# EAGLE library part INFINEON_BTS5008-1EKB (library PROFET+_EAGLE_Library)
PROFET+ 12V BTS5008-1EKB Smart High-Side Power Switch Single Channel, 8mOhm
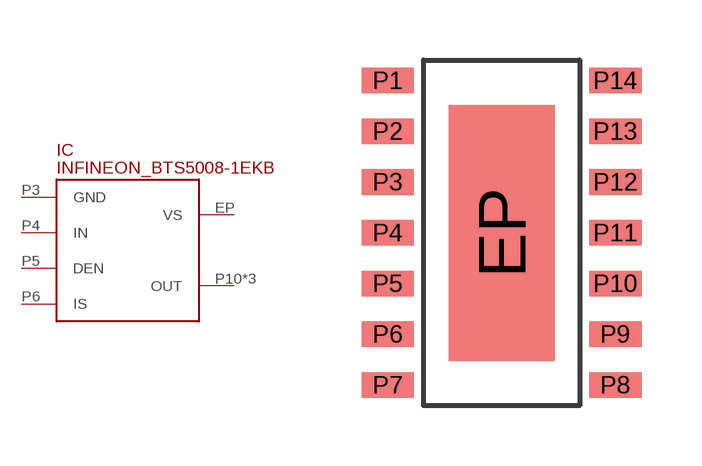
[diagram p0: symbol with the pads of IFX_PG_DSO_14_47_EP; footprint IFX_PG_DSO_14_47_EP]

Designator prefix IC

## INFINEON_BTS5008-1EKB  [IFX_PG_DSO_14_47_EP]
EP  VS
P3  GND
P4  IN
P5  DEN
P6  IS
P10  OUT
P11  OUT
P12  OUT

## Footprint IFX_PG_DSO_14_47_EP (pad centres in mm)
smd 2.65 x 6.4: EP 0,0
smd 1.31 x 0.64: P1 -2.845,3.81; P2 -2.845,2.54; P3 -2.845,1.27; P4 -2.845,0; P5 -2.845,-1.27; P6 -2.845,-2.54; P7 -2.845,-3.81; P8 2.845,-3.81; P9 2.845,-2.54; P10 2.845,-1.27; P11 2.845,0; P12 2.845,1.27; P13 2.845,2.54; P14 2.845,3.81